# Altium schematic symbol library VLIB.SchLib: 5 symbols
Pins are listed as number, name and electrical type; pins without a type are passive.

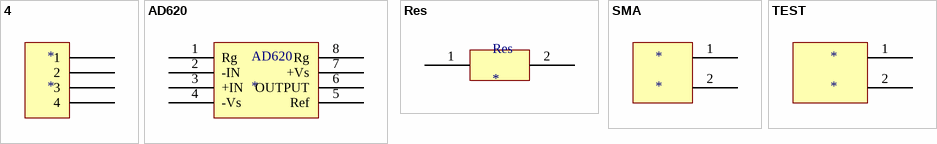
[diagram p0: symbols 4 to TEST]

## 4
designator *
footprint VCONNECTOR
pins: 1, 2, 3, 4

## AD620
designator AD620
footprint AD620
pins: 1 Rg, 2 -IN, 3 +IN, 4 -Vs, 5 Ref, 6 OUTPUT, 7 +Vs, 8 Rg

## Res
designator Res
footprint Res
pins: 1 45, 2 44

## SMA
designator *
footprint SMA
pins: 1 46, 2 47

## TEST
designator *
footprint PC3 (Chip Capacitor; Body 2.0 x 1.2 mm (LxW typ))
footprint PC1
pins: 1 48, 2 49